# Altium schematic symbol library L9110S_Motor_Drive.SchLib: 1 symbol
Pins are listed as number, name and electrical type; pins without a type are passive.

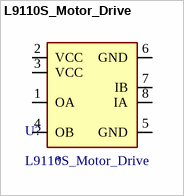
[diagram p0: symbol L9110S_Motor_Drive]

## L9110S_Motor_Drive
designator U?
Step Motor Drive 2.2V~6.5V SOP-8  Motor Driver ICs ROHS; LCSC: *
footprint L9110S_Motor_Drive
pins: 1 OA, 2 VCC, 3 VCC, 4 OB, 5 GND, 6 GND, 7 IB, 8 IA